# EAGLE library part RK0971221 (library mylib2)
スイッチ付2連可変抵抗 ALPS RK0971221-F15-C0-A103
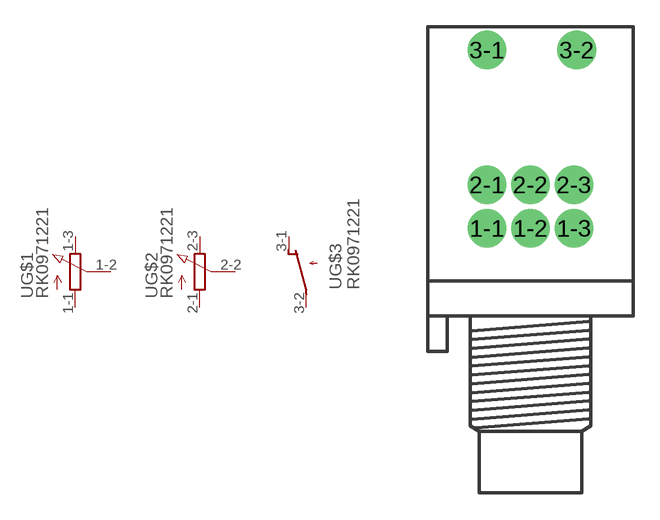
[diagram p3: symbol with the pads of RK0971221; footprint RK0971221]

Designator prefix -; gates G$1=POT_EU G$2=POT_EU G$3=SW_MOM

## RK0971221  [RK0971221]
1-1  G$1:A  pas
1-2  G$1:S  pas
1-3  G$1:E  pas
2-1  G$2:A  pas
2-2  G$2:S  pas
2-3  G$2:E  pas
3-1  G$3:O  pas
3-2  G$3:P  pas

## Footprint RK0971221 (pad centres in mm)
drill 1.2 pad 2.184: 1-1 -2.46,0; 1-2 0,0; 1-3 2.46,0; 2-1 -2.46,2.46; 2-2 0,2.46; 2-3 2.46,2.46; 3-1 -2.46,10.08; 3-2 2.62,10.08